# Altium schematic symbol library P0102BL 5AA4.Schlib: 1 symbol
Pins are listed as number, name and electrical type; pins without a type are passive.

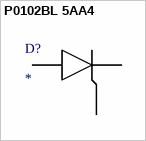
[diagram p0: symbol P0102BL 5AA4]

## P0102BL 5AA4
designator D?
pins: 1 C, 2 G, 3 A